# Altium schematic symbol library Modulos.SchLib: 10 symbols
Pins are listed as number, name and electrical type; pins without a type are passive.

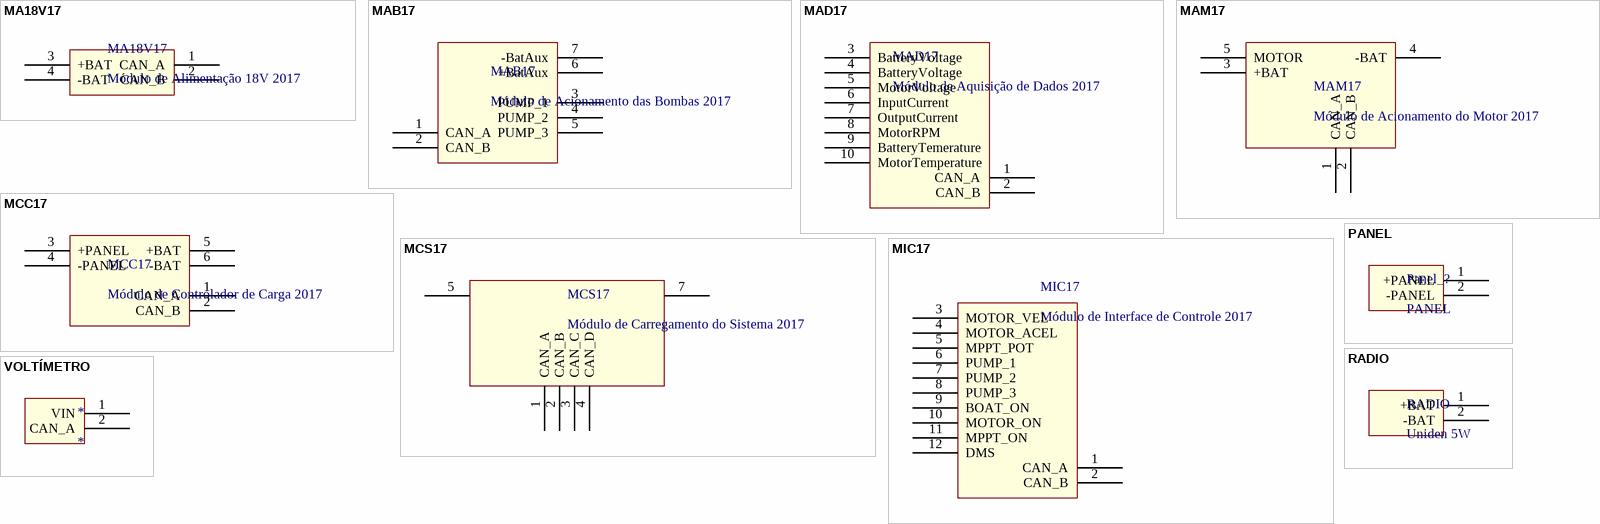
[diagram p0: symbols MA18V17 to VOLTÍMETRO]

## MA18V17
designator MA18V17, comment Módulo de Alimentação 18V 2017
pins: 1 CAN_A, 2 CAN_B, 3 +BAT, 4 -BAT

## MAB17
designator MAB17, comment Módulo de Acionamento das Bombas 2017
pins: 1 CAN_A, 2 CAN_B, 3 PUMP_1, 4 PUMP_2, 5 PUMP_3, 6 +BatAux, 7 -BatAux

## MAD17
designator MAD17, comment Módulo de Aquisição de Dados 2017
pins: 1 CAN_A, 2 CAN_B, 3 BatteryVoltage, 4 BatteryVoltage, 5 MotorVoltage, 6 InputCurrent, 7 OutputCurrent, 8 MotorRPM, 9 BatteryTemerature, 10 MotorTemperature

## MAM17
designator MAM17, comment Módulo de Acionamento do Motor 2017
pins: 1 CAN_A, 2 CAN_B, 3 +BAT, 4 -BAT, 5 MOTOR

## MCC17
designator MCC17, comment Módulo de Controlador de Carga 2017
pins: 1 CAN_A, 2 CAN_B, 3 +PANEL, 4 -PANEL, 5 +BAT, 6 -BAT

## MCS17
designator MCS17, comment Módulo de Carregamento do Sistema 2017
pins: 1 CAN_A, 2 CAN_B, 3 CAN_C, 4 CAN_D, 5 +BAT, 7 +CAP

## MIC17
designator MIC17, comment Módulo de Interface de Controle 2017
pins: 1 CAN_A, 2 CAN_B, 3 MOTOR_VEL, 4 MOTOR_ACEL, 5 MPPT_POT, 6 PUMP_1, 7 PUMP_2, 8 PUMP_3, 9 BOAT_ON, 10 MOTOR_ON, 11 MPPT_ON, 12 DMS

## PANEL
designator Panel_?
pins: 1 +PANEL, 2 -PANEL

## RADIO
designator RADIO, comment Uniden 5W
pins: 1 +BAT, 2 -BAT

## VOLTÍMETRO
designator *
pins: 1 VIN, 2 CAN_A